# EAGLE library part 103735-09 (library con-tyco-modu)
HEADER
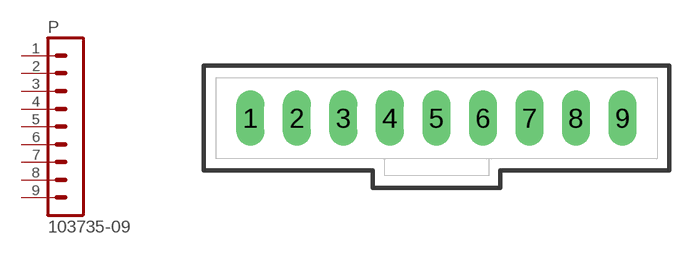
[diagram p3: symbol with the pads of 103735-09; footprint 103735-09]

Designator prefix P

## 103735-09  [103735-09]
1  1  pas
2  2  pas
3  3  pas
4  4  pas
5  5  pas
6  6  pas
7  7  pas
8  8  pas
9  9  pas

## Footprint 103735-09 (pad centres in mm)
HEADER - MTE
drill 1.016 long: 1 -10.16,0; 2 -7.62,0; 3 -5.08,0; 4 -2.54,0; 5 0,0; 6 2.54,0; 7 5.08,0; 8 7.62,0; 9 10.16,0